# Altium footprint library CONNECTORS_SMD.PcbLib: 2 footprints
Each footprint in its own frame and in the unit in brackets; x right, y up, seen from the top. Pads: shape width x height; smd on the part's side, far side on the other; paste and mask are expansions set on the pad; w line width, h text height; cw(c..) or ccw(c..) is an arc to the next point about the centre after c.
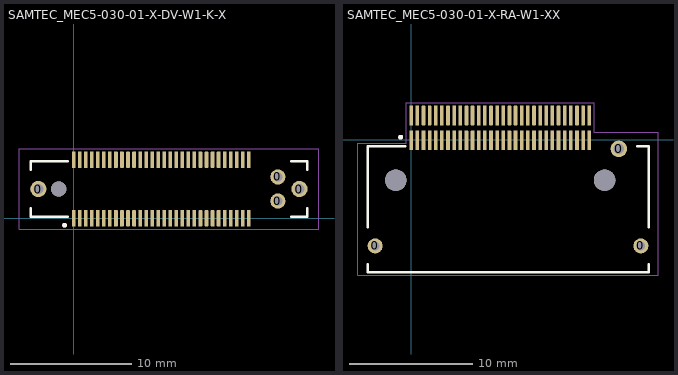
[diagram p0: the footprints below, top view; thin cyan lines are the x and y axes]

## SAMTEC_MEC5-030-01-X-DV-W1-K-X [mm]
height 10.25
pads (65):
  round 1.338 hole 0.83 mask+0.075: 0(-2.946,2.413) 0(18.684,2.413)
  round 1.258 hole 0.75 mask+0.075: 0(16.894,1.413) 0(16.894,3.413)
  rrect25% 0.3x1.35 smd paste-0.012 mask+0.05: 1(-0.016,-0.012) 2(-0.016,4.838) 3(0.484,-0.012) 4(0.484,4.838) 5(0.984,-0.012) 6(0.984,4.838) 7(1.484,-0.012) 8(1.484,4.838) 9(1.984,-0.012) 10(1.984,4.838) 11(2.484,-0.012) 12(2.484,4.838) 13(2.984,-0.012) 14(2.984,4.838) 15(3.484,-0.012) 16(3.484,4.838) 17(3.984,-0.012) 18(3.984,4.838) 19(4.484,-0.012) 20(4.484,4.838) 21(4.984,-0.012) 22(4.984,4.838) 23(5.484,-0.012) 24(5.484,4.838) 25(5.984,-0.012) 26(5.984,4.838) 27(6.484,-0.012) 28(6.484,4.838) 29(6.984,-0.012) 30(6.984,4.838) 31(7.484,-0.012) 32(7.484,4.838) 33(7.984,-0.012) 34(7.984,4.838) 35(8.484,-0.012) 36(8.484,4.838) 37(8.984,-0.012) 38(8.984,4.838) 39(9.484,-0.012) 40(9.484,4.838) 41(9.984,-0.012) 42(9.984,4.838) 43(10.484,-0.012) 44(10.484,4.838) 45(10.984,-0.012) 46(10.984,4.838) 47(11.484,-0.012) 48(11.484,4.838) 49(11.984,-0.012) 50(11.984,4.838) 51(12.484,-0.012) 52(12.484,4.838) 53(12.984,-0.012) 54(12.984,4.838) 55(13.484,-0.012) 56(13.484,4.838) 57(13.984,-0.012) 58(13.984,4.838) 59(14.484,-0.012) 60(14.484,4.838)
  round 1.27 hole 1.27 unplated mask+0.075: ""(-1.266,2.413)
Top Overlay:
  circle w0.2: c-0.766,-0.587 r0.1
  lines w0.2: -3.566,0.813 -3.566,0.113 -0.516,0.113 ; -3.566,4.013 -3.566,4.713 -0.516,4.713 ; 17.984,0.113 19.324,0.113 19.324,0.813 ; 17.984,4.713 19.324,4.713 19.324,4.013
Mechanical 13:
  circle w0.2: c-0.766,-0.587 r0.1
Mechanical 15:
  lines w0.05: -4.546,-0.937 20.304,-0.937 20.304,5.763 -4.546,5.763 -4.546,-0.937
3D body "MEC5-030-01-L-DV-W1-K-TR.stp": height 10.8, standoff -1.35, extent -3.566,-0.516 19.314,5.342

## SAMTEC_MEC5-030-01-X-RA-W1-XX [mm]
pads (65):
  round 1.228 hole 0.72 mask+0.075: 0(-2.941,-8.652) 0(18.689,-8.652)
  round 1.348 hole 0.84 mask+0.075: 0(16.899,-0.752)
  rrect25% 0.3x1.6 smd paste-0.013 mask+0.05: 1(-0.011,-0.052) 2(-0.011,1.968) 3(0.489,-0.052) 4(0.489,1.968) 5(0.989,-0.052) 6(0.989,1.968) 7(1.489,-0.052) 8(1.489,1.968) 9(1.989,-0.052) 10(1.989,1.968) 11(2.489,-0.052) 12(2.489,1.968) 13(2.989,-0.052) 14(2.989,1.968) 15(3.489,-0.052) 16(3.489,1.968) 17(3.989,-0.052) 18(3.989,1.968) 19(4.489,-0.052) 20(4.489,1.968) 21(4.989,-0.052) 22(4.989,1.968) 23(5.489,-0.052) 24(5.489,1.968) 25(5.989,-0.052) 26(5.989,1.968) 27(6.489,-0.052) 28(6.489,1.968) 29(6.989,-0.052) 30(6.989,1.968) 31(7.489,-0.052) 32(7.489,1.968) 33(7.989,-0.052) 34(7.989,1.968) 35(8.489,-0.052) 36(8.489,1.968) 37(8.989,-0.052) 38(8.989,1.968) 39(9.489,-0.052) 40(9.489,1.968) 41(9.989,-0.052) 42(9.989,1.968) 43(10.489,-0.052) 44(10.489,1.968) 45(10.989,-0.052) 46(10.989,1.968) 47(11.489,-0.052) 48(11.489,1.968) 49(11.989,-0.052) 50(11.989,1.968) 51(12.489,-0.052) 52(12.489,1.968) 53(12.989,-0.052) 54(12.989,1.968) 55(13.489,-0.052) 56(13.489,1.968) 57(13.989,-0.052) 58(13.989,1.968) 59(14.489,-0.052) 60(14.489,1.968)
  round 1.75 hole 1.75 unplated mask+0.1: ""(-1.261,-3.302) ""(15.739,-3.302)
Top Overlay:
  circle w0.2: c-0.866,0.198 r0.1
  lines w0.2: -3.561,-10.152 -3.561,-10.802 19.329,-10.802 19.329,-10.152 ; -3.561,-7.152 -3.561,-0.552 -0.511,-0.552 ; 18.384,-0.552 19.329,-0.552 19.329,-7.152
Mechanical 13:
  circle w0.2: c-0.866,0.198 r0.1
  lines w0.1: -3.561,-10.802 19.329,-10.802
Mechanical 15:
  lines w0.05: -4.341,-11.052 -4.341,-0.302 -0.411,-0.302 -0.411,3.018 14.889,3.018 14.889,0.613 20.089,0.613 20.089,-11.052 -4.341,-11.052
3D body "MEC5-030-01-L-RA-W1-TR.stp": height 5.45, standoff -1.4, extent -3.566,-10.758 19.314,2.771